# EAGLE library part BLUETOOTH_REDUCED (library daGloane)
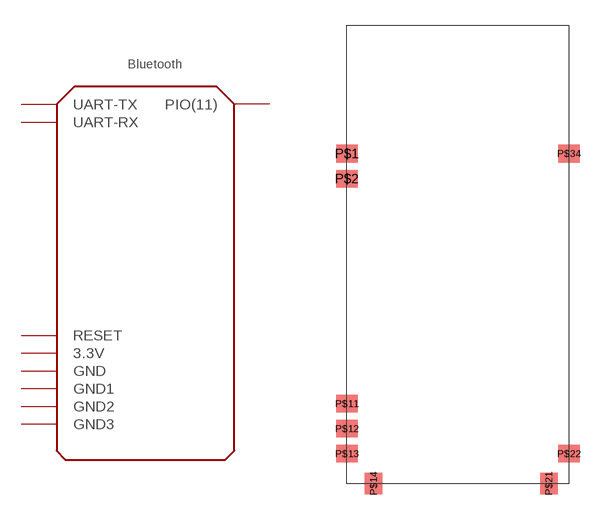
[diagram p9: symbol with the pads of BLUETOOTH_REDUCED; footprint BLUETOOTH_REDUCED]

Designator prefix -

## BLUETOOTH_REDUCED  [BLUETOOTH_REDUCED]
P$1  UART-TX  out
P$2  UART-RX  in
P$11  RESET  in
P$12  3.3V  pwr
P$13  GND  pwr
P$14  GND1  pwr
P$21  GND2  pwr
P$22  GND3  pwr
P$34  PIO(11)

## Footprint BLUETOOTH_REDUCED (pad centres in mm)
smd 1.3 x 1.05: P$1 -6.65,6.04; P$2 -6.65,4.54; P$11 -6.65,-8.96; P$12 -6.65,-10.46; P$13 -6.65,-11.96; P$22 6.65,-11.96; P$34 6.65,6.04
smd 1.05 x 1.3: P$14 -5.05,-13.75; P$21 5.45,-13.75